# EAGLE library part MSP430F2013 (library ecssr)
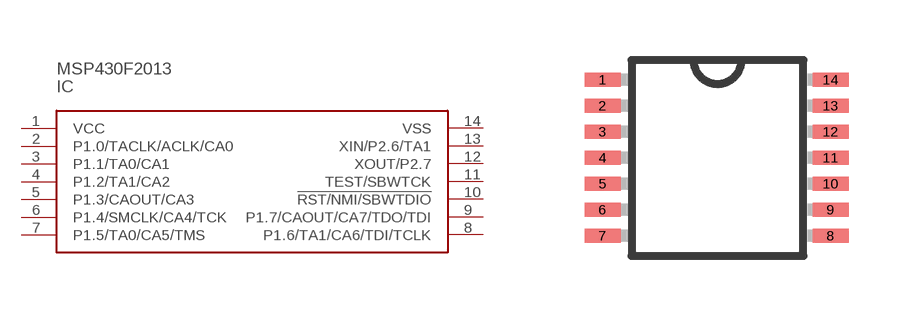
[diagram p3: symbol with the pads of TSSOP14; footprint TSSOP14]

Designator prefix IC

## MSP430F2013IPW  [TSSOP14]
1  VCC
2  P1.0/TACLK/ACLK/CA0
3  P1.1/TA0/CA1
4  P1.2/TA1/CA2
5  P1.3/CAOUT/CA3
6  P1.4/SMCLK/CA4/TCK
7  P1.5/TA0/CA5/TMS
8  P1.6/TA1/CA6/TDI/TCLK
9  P1.7/CAOUT/CA7/TDO/TDI
10  !RST/NMI/SBWTDIO
11  TEST/SBWTCK
12  XOUT/P2.7
13  XIN/P2.6/TA1
14  VSS

## Footprint TSSOP14 (pad centres in mm)
14-Lead Thin Shrink Small Outline Package [TSSOP] Source: Analog Devices .. 780914713ADD8704_0.pdf
smd 0.9 x 0.35: 1 -2.875,1.95; 2 -2.875,1.3; 3 -2.875,0.65; 4 -2.875,0; 5 -2.875,-0.65; 6 -2.875,-1.3; 7 -2.875,-1.95; 8 2.825,-1.95; 9 2.825,-1.3; 10 2.825,-0.65; 11 2.825,0; 12 2.825,0.65; 13 2.825,1.3; 14 2.825,1.95